# Altium schematic symbol library LM2575_TO263.SchLib: 1 symbol
Pins are listed as number, name and electrical type; pins without a type are passive.

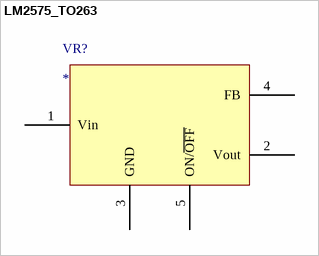
[diagram p0: symbol LM2575_TO263]

## LM2575_TO263
designator VR?
pins: 1 Vin (power), 2 Vout (power), 3 GND (power), 4 FB (power), 5 ON/~{OFF}